# Altium schematic symbol library kmilo17pet-TI_LDO_0_350.SchLib: 1649 symbols (part 60 of 66)
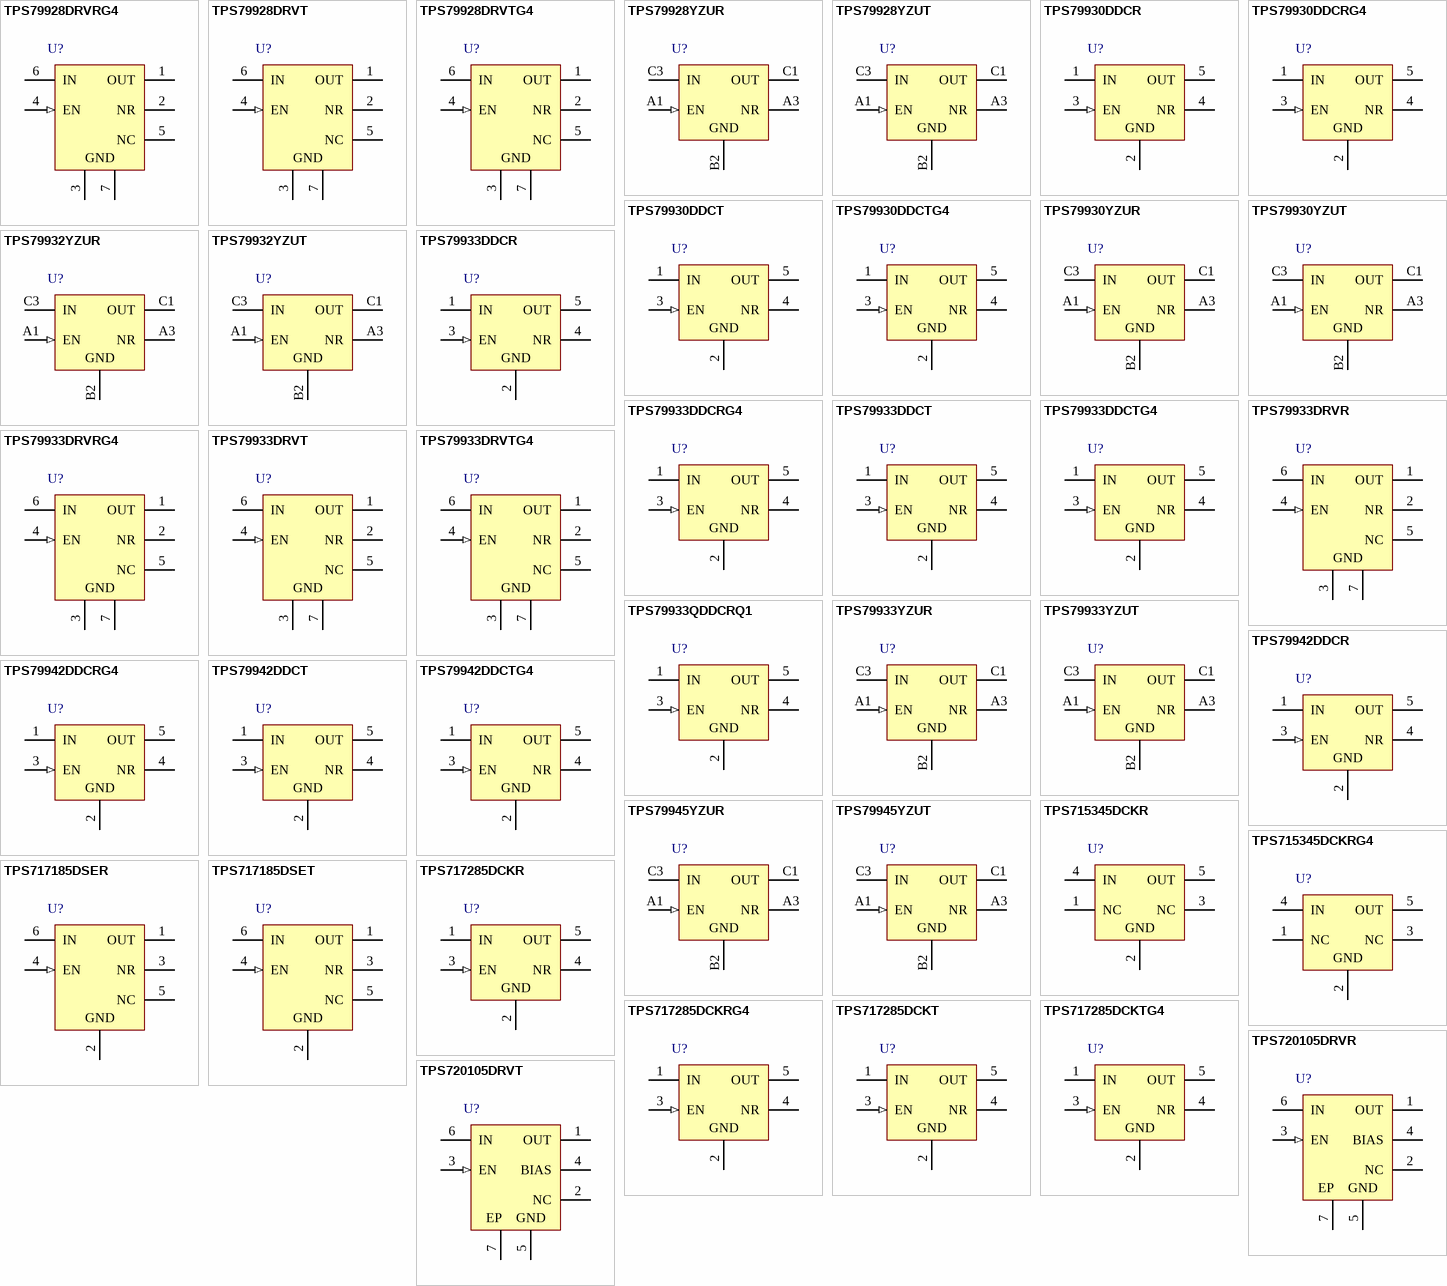
[diagram p101: symbols TPS79928DRVRG4 to TPS720105DRVT]

## TPS79945YZUR
designator U?
Single Output High PSRR LDO, 200 mA, Fixed 4.5 V Output, 2.7 to 6.5 V Input, with Low IQ, 5-pin DSBGA (YZU), -40 to 85 degC, Green (RoHS & no Sb/Br); Manufacturer: Texas Instruments; PartNumber: TPS79945YZUR; Accuracy(%): 2; Fixed Output Options(V): 4.5; Iout(Max)(A): 0.2; Iq(Typ)(mA): 0.04; Rating: Catalog; SubFamily: Single Channel LDO; Vdo(Typ)(mV): 100; Vin(Max)(V): 6.5; Vin(Min)(V): 2.7; DatasheetVersion: SBVS056J; PackageVersion: 4205678/D; PackageReference: YZU5; PackageDescription: 5-Pin Silicon Grid Array, Body 1.337 x 0.971 mm, Pitch 0.25 mm; Supplier 1: Digi-Key; Supplier Part Number 1: 296-21904-2-ND; Supplier 2: Digi-Key; Supplier Part Number 2: 296-21904-1-ND; Supplier 3: Digi-Key; Supplier Part Number 3: 296-21904-6-ND; Supplier 4: Newark; Supplier Part Number 4: 99K4449; Supplier 5: Mouser; Supplier Part Number 5: 595-TPS79945YZUR; Eco-Plan: Green (RoHS & no Sb/Br); Vout Adj(Max)(V): 4.5; Vout Adj(Min)(V): 4.5; Mounting Technology: Surface Mount; ComponentLink1Description: Manufacturer URL; ComponentLink1URL: http://www.ti.com/; ComponentLink2Description: Datasheet; ComponentLink2URL: http://www.ti.com/general/docs/lit/getliterature.tsp?genericPartNumber=TPS79945&fileType=pdf; ComponentLink3Description: Package Specification; ComponentLink3URL: http://www.ti.com/litv/pdf/mpds018i
footprint TI-YZU5-1337x971DE (BGA, 5-Balls, Body 1.337x0.971mm, Pitch 0.25mm)
pins: A1 EN (in) "Driving the enable pin (EN) high turns on the regulator. Driving this pin low puts the regulator into shutdown mode. EN can be connected to IN if not used.", A3 NR "Fixed voltage versions only; connecting an external capacitor to this pin bypasses noise generated by the internal bandgap. This capacitor allows output noise to be reduced to very low levels.", B2 GND (power) "Ground", C1 OUT (power) "Output of the regulator. A small capacitor (total typical capacitance >= 2.0mF ceramic) is needed from this pin to ground to assure stability.", C3 IN (power) "Input supply."

## TPS79945YZUT
designator U?
Single Output High PSRR LDO, 200 mA, Fixed 4.5 V Output, 2.7 to 6.5 V Input, with Low IQ, 5-pin DSBGA (YZU), -40 to 85 degC, Green (RoHS & no Sb/Br); Manufacturer: Texas Instruments; PartNumber: TPS79945YZUT; Accuracy(%): 2; Fixed Output Options(V): 4.5; Iout(Max)(A): 0.2; Iq(Typ)(mA): 0.04; Rating: Catalog; SubFamily: Single Channel LDO; Vdo(Typ)(mV): 100; Vin(Max)(V): 6.5; Vin(Min)(V): 2.7; DatasheetVersion: SBVS056J; PackageVersion: 4205678/D; PackageReference: YZU5; PackageDescription: 5-Pin Silicon Grid Array, Body 1.337 x 0.971 mm, Pitch 0.25 mm; Supplier 1: Digi-Key; Supplier Part Number 1: TPS79945YZUT-ND; Supplier 2: Mouser; Supplier Part Number 2: 595-TPS79945YZUT; Eco-Plan: Green (RoHS & no Sb/Br); Vout Adj(Max)(V): 4.5; Vout Adj(Min)(V): 4.5; Mounting Technology: Surface Mount; ComponentLink1Description: Manufacturer URL; ComponentLink1URL: http://www.ti.com/; ComponentLink2Description: Datasheet; ComponentLink2URL: http://www.ti.com/general/docs/lit/getliterature.tsp?genericPartNumber=TPS79945&fileType=pdf; ComponentLink3Description: Package Specification; ComponentLink3URL: http://www.ti.com/litv/pdf/mpds018i
footprint TI-YZU5-1337x971DE (BGA, 5-Balls, Body 1.337x0.971mm, Pitch 0.25mm)
pins: A1 EN (in) "Driving the enable pin (EN) high turns on the regulator. Driving this pin low puts the regulator into shutdown mode. EN can be connected to IN if not used.", A3 NR "Fixed voltage versions only; connecting an external capacitor to this pin bypasses noise generated by the internal bandgap. This capacitor allows output noise to be reduced to very low levels.", B2 GND (power) "Ground", C1 OUT (power) "Output of the regulator. A small capacitor (total typical capacitance >= 2.0mF ceramic) is needed from this pin to ground to assure stability.", C3 IN (power) "Input supply."

## TPS715345DCKR
designator U?
Single Output LDO, 50 mA, Fixed 3.45 V Output, 3 to 24 V Input, 5-pin SC70 (DCK), -40 to 85 degC, Green (RoHS & no Sb/Br); Manufacturer: Texas Instruments; PartNumber: TPS715345DCKR; Accuracy(%): 4; Fixed Output Options(V): 3.45; Iout(Max)(A): 0.05; Iq(Typ)(mA): 0.003; SubFamily: Single Channel LDO; Vdo(Typ)(mV): 415; Vin(Max)(V): 24; Vin(Min)(V): 3; DatasheetVersion: SLVS338P; PackageVersion: 4093553-3/G; PackageReference: DCK5; PackageDescription: 5-Pin Plastic Small-Outline, Body 2 x 1.25 mm, Pitch 0.65 mm; Supplier 1: Digi-Key; Supplier Part Number 1: 296-18732-2-ND; Supplier 2: Digi-Key; Supplier Part Number 2: 296-18732-1-ND; Supplier 3: Digi-Key; Supplier Part Number 3: 296-18732-6-ND; Supplier 4: Farnell; Supplier Part Number 4: 1412675; Supplier 5: Newark; Supplier Part Number 5: 61K1909; Supplier 6: Mouser; Supplier Part Number 6: 595-TPS715345DCKR; Eco-Plan: Green (RoHS & no Sb/Br); Vout Adj(Max)(V): 3.45; Vout Adj(Min)(V): 3.45; Mounting Technology: Surface Mount; Code_JEDEC: MO-203; ComponentLink1Description: Manufacturer URL; ComponentLink1URL: http://www.ti.com/; ComponentLink2Description: Datasheet; ComponentLink2URL: http://www.ti.com/general/docs/lit/getliterature.tsp?genericPartNumber=TPS715345&fileType=pdf; ComponentLink3Description: Package Specification; ComponentLink3URL: http://www.ti.com/litv/pdf/mpds025f
footprint TI-DCK5_V (SOT23, 5-Leads, Body 2x1.25mm, Pitch 0.65mm)
pins: 1 NC "No connection", 2 GND (power) "Ground", 3 NC "No connection", 4 IN (power) "Input supply", 5 OUT (power) "Output of the regulator, any output capacitor >= 0.47 uF can be used for stability."

## TPS715345DCKRG4
designator U?
Single Output LDO, 50 mA, Fixed 3.45 V Output, 3 to 24 V Input, 5-pin SC70 (DCK), -40 to 85 degC, Green (RoHS & no Sb/Br); Manufacturer: Texas Instruments; PartNumber: TPS715345DCKRG4; Accuracy(%): 4; Fixed Output Options(V): 3.45; Iout(Max)(A): 0.05; Iq(Typ)(mA): 0.003; SubFamily: Single Channel LDO; Vdo(Typ)(mV): 415; Vin(Max)(V): 24; Vin(Min)(V): 3; DatasheetVersion: SLVS338P; PackageVersion: 4093553-3/G; PackageReference: DCK5; PackageDescription: 5-Pin Plastic Small-Outline, Body 2 x 1.25 mm, Pitch 0.65 mm; Supplier 1: Digi-Key; Supplier Part Number 1: TPS715345DCKRG4-ND; Supplier 2: Mouser; Supplier Part Number 2: 595-TPS715345DCKRG4; Eco-Plan: Green (RoHS & no Sb/Br); Vout Adj(Max)(V): 3.45; Vout Adj(Min)(V): 3.45; Mounting Technology: Surface Mount; Code_JEDEC: MO-203; ComponentLink1Description: Manufacturer URL; ComponentLink1URL: http://www.ti.com/; ComponentLink2Description: Datasheet; ComponentLink2URL: http://www.ti.com/general/docs/lit/getliterature.tsp?genericPartNumber=TPS715345&fileType=pdf; ComponentLink3Description: Package Specification; ComponentLink3URL: http://www.ti.com/litv/pdf/mpds025f
footprint TI-DCK5_V (SOT23, 5-Leads, Body 2x1.25mm, Pitch 0.65mm)
pins: 1 NC "No connection", 2 GND (power) "Ground", 3 NC "No connection", 4 IN (power) "Input supply", 5 OUT (power) "Output of the regulator, any output capacitor >= 0.47 uF can be used for stability."

## TPS717185DSER
designator U?
Single Output High PSRR LDO, 150 mA, Fixed 1.85 V Output, 2.5 to 6.5 V Input, with Low IQ, 6-pin WSON (DSE), -40 to 125 degC, Green (RoHS & no Sb/Br); Manufacturer: Texas Instruments; PartNumber: TPS717185DSER; Accuracy(%): 3; Fixed Output Options(V): 1.85; Iout(Max)(A): 0.15; Iq(Typ)(mA): 0.05; SubFamily: Single Channel LDO; Vdo(Typ)(mV): 170; Vin(Max)(V): 6.5; Vin(Min)(V): 2.5; DatasheetVersion: SBVS068G; PackageVersion: 4207810/A; PackageReference: DSE6; PackageDescription: 6-Pin Plastic Small Outline, Body 1.5 x 1.5 mm, Pitch 0.5 mm; Supplier 1: Digi-Key; Supplier Part Number 1: 296-24055-2-ND; Supplier 2: Digi-Key; Supplier Part Number 2: 296-24055-1-ND; Supplier 3: Digi-Key; Supplier Part Number 3: 296-24055-6-ND; Supplier 4: Newark; Supplier Part Number 4: 45P8295; Supplier 5: Mouser; Supplier Part Number 5: 595-TPS717185DSER; Eco-Plan: Green (RoHS & no Sb/Br); Vout Adj(Max)(V): 1.85; Vout Adj(Min)(V): 1.85; Mounting Technology: Surface Mount; ComponentLink1Description: Manufacturer URL; ComponentLink1URL: http://www.ti.com/; ComponentLink2Description: Datasheet; ComponentLink2URL: http://www.ti.com/general/docs/lit/getliterature.tsp?genericPartNumber=TPS717185&fileType=pdf; ComponentLink3Description: Package Specification; ComponentLink3URL: http://www.ti.com/litv/pdf/mpds287
footprint TI-DSE6_V (SON, 6-Leads, Body 1.5x1.5mm, Pitch 0.5mm)
pins: 1 OUT (power) "This is the regulated output voltage. A small capacitor is needed from this pin to ground to assure stability; a 1.0µF ceramic capacitor is adequate", 2 GND (power) "Ground", 3 NR "Fixed voltage versions only. An external capacitor connected to this terminal bypasses noise generated by the internal bandgap, lowering output noise", 4 EN (in) "Driving the enable pin (EN) high turns on the regulator. Driving this pin low puts the regulator into standby mode, thereby reducing operating current", 5 NC "Not connected. This pin can be tied to ground to improve thermal dissipation", 6 IN (power) "Input to the device"

## TPS717185DSET
designator U?
Single Output High PSRR LDO, 150 mA, Fixed 1.85 V Output, 2.5 to 6.5 V Input, with Low IQ, 6-pin WSON (DSE), -40 to 125 degC, Green (RoHS & no Sb/Br); Manufacturer: Texas Instruments; PartNumber: TPS717185DSET; Accuracy(%): 3; Fixed Output Options(V): 1.85; Iout(Max)(A): 0.15; Iq(Typ)(mA): 0.05; SubFamily: Single Channel LDO; Vdo(Typ)(mV): 170; Vin(Max)(V): 6.5; Vin(Min)(V): 2.5; DatasheetVersion: SBVS068G; PackageVersion: 4207810/A; PackageReference: DSE6; PackageDescription: 6-Pin Plastic Small Outline, Body 1.5 x 1.5 mm, Pitch 0.5 mm; Supplier 1: Digi-Key; Supplier Part Number 1: TPS717185DSET-ND; Supplier 2: Mouser; Supplier Part Number 2: 595-TPS717185DSET; Eco-Plan: Green (RoHS & no Sb/Br); Vout Adj(Max)(V): 1.85; Vout Adj(Min)(V): 1.85; Mounting Technology: Surface Mount; ComponentLink1Description: Manufacturer URL; ComponentLink1URL: http://www.ti.com/; ComponentLink2Description: Datasheet; ComponentLink2URL: http://www.ti.com/general/docs/lit/getliterature.tsp?genericPartNumber=TPS717185&fileType=pdf; ComponentLink3Description: Package Specification; ComponentLink3URL: http://www.ti.com/litv/pdf/mpds287
footprint TI-DSE6_V (SON, 6-Leads, Body 1.5x1.5mm, Pitch 0.5mm)
pins: 1 OUT (power) "This is the regulated output voltage. A small capacitor is needed from this pin to ground to assure stability; a 1.0µF ceramic capacitor is adequate", 2 GND (power) "Ground", 3 NR "Fixed voltage versions only. An external capacitor connected to this terminal bypasses noise generated by the internal bandgap, lowering output noise", 4 EN (in) "Driving the enable pin (EN) high turns on the regulator. Driving this pin low puts the regulator into standby mode, thereby reducing operating current", 5 NC "Not connected. This pin can be tied to ground to improve thermal dissipation", 6 IN (power) "Input to the device"

## TPS717285DCKR
designator U?
Single Output High PSRR LDO, 150 mA, Fixed 2.85 V Output, 2.5 to 6.5 V Input, with Low IQ, 5-pin SC70 (DCK), -40 to 85 degC, Green (RoHS & no Sb/Br); Manufacturer: Texas Instruments; PartNumber: TPS717285DCKR; Accuracy(%): 3; Fixed Output Options(V): 2.85; Iout(Max)(A): 0.15; Iq(Typ)(mA): 0.05; SubFamily: Single Channel LDO; Vdo(Typ)(mV): 170; Vin(Max)(V): 6.5; Vin(Min)(V): 2.5; DatasheetVersion: SBVS068G; PackageVersion: 4093553-3/G; PackageReference: DCK5; PackageDescription: 5-Pin Plastic Small-Outline, Body 2 x 1.25 mm, Pitch 0.65 mm; Supplier 1: Digi-Key; Supplier Part Number 1: 296-19649-2-ND; Supplier 2: Digi-Key; Supplier Part Number 2: 296-19649-1-ND; Supplier 3: Digi-Key; Supplier Part Number 3: 296-19649-6-ND; Supplier 4: Newark; Supplier Part Number 4: 84K3843; Supplier 5: Mouser; Supplier Part Number 5: 595-TPS717285DCKR; Eco-Plan: Green (RoHS & no Sb/Br); Vout Adj(Max)(V): 2.85; Vout Adj(Min)(V): 2.85; Mounting Technology: Surface Mount; Code_JEDEC: MO-203; ComponentLink1Description: Manufacturer URL; ComponentLink1URL: http://www.ti.com/; ComponentLink2Description: Datasheet; ComponentLink2URL: http://www.ti.com/general/docs/lit/getliterature.tsp?genericPartNumber=TPS717285&fileType=pdf; ComponentLink3Description: Package Specification; ComponentLink3URL: http://www.ti.com/litv/pdf/mpds025f
footprint TI-DCK5_V (SOT23, 5-Leads, Body 2x1.25mm, Pitch 0.65mm)
pins: 1 IN (power) "Input supply.", 2 GND (power) "Ground.", 3 EN (in) "Driving the enable pin (EN) high turns on the regulator .Driving this pin low puts the regulator into shutdown mode.EN can be connected to IN if not used.", 4 NR "Fixed voltage versions only; connecting an external capacitor to this pin bypasses noise generated by the internal bandgap. This capacitor allows output noise to be reduced to very low levels.", 5 OUT (power) "Output for the regulator. A small capacitor (total typical capacitance >= 2.0uF ceramic) is needed from this pin to ground to assure stability."

## TPS717285DCKRG4
designator U?
Single Output High PSRR LDO, 150 mA, Fixed 2.85 V Output, 2.5 to 6.5 V Input, with Low IQ, 5-pin SC70 (DCK), -40 to 85 degC, Green (RoHS & no Sb/Br); Manufacturer: Texas Instruments; PartNumber: TPS717285DCKRG4; Accuracy(%): 3; Fixed Output Options(V): 2.85; Iout(Max)(A): 0.15; Iq(Typ)(mA): 0.05; SubFamily: Single Channel LDO; Vdo(Typ)(mV): 170; Vin(Max)(V): 6.5; Vin(Min)(V): 2.5; DatasheetVersion: SBVS068G; PackageVersion: 4093553-3/G; PackageReference: DCK5; PackageDescription: 5-Pin Plastic Small-Outline, Body 2 x 1.25 mm, Pitch 0.65 mm; Supplier 1: Digi-Key; Supplier Part Number 1: TPS717285DCKRG4-ND; Supplier 2: Mouser; Supplier Part Number 2: 595-TPS717285DCKRG4; Eco-Plan: Green (RoHS & no Sb/Br); Vout Adj(Max)(V): 2.85; Vout Adj(Min)(V): 2.85; Mounting Technology: Surface Mount; Code_JEDEC: MO-203; ComponentLink1Description: Manufacturer URL; ComponentLink1URL: http://www.ti.com/; ComponentLink2Description: Datasheet; ComponentLink2URL: http://www.ti.com/general/docs/lit/getliterature.tsp?genericPartNumber=TPS717285&fileType=pdf; ComponentLink3Description: Package Specification; ComponentLink3URL: http://www.ti.com/litv/pdf/mpds025f
footprint TI-DCK5_V (SOT23, 5-Leads, Body 2x1.25mm, Pitch 0.65mm)
pins: 1 IN (power) "Input supply.", 2 GND (power) "Ground.", 3 EN (in) "Driving the enable pin (EN) high turns on the regulator .Driving this pin low puts the regulator into shutdown mode.EN can be connected to IN if not used.", 4 NR "Fixed voltage versions only; connecting an external capacitor to this pin bypasses noise generated by the internal bandgap. This capacitor allows output noise to be reduced to very low levels.", 5 OUT (power) "Output for the regulator. A small capacitor (total typical capacitance >= 2.0uF ceramic) is needed from this pin to ground to assure stability."

## TPS717285DCKT
designator U?
Single Output High PSRR LDO, 150 mA, Fixed 2.85 V Output, 2.5 to 6.5 V Input, with Low IQ, 5-pin SC70 (DCK), -40 to 85 degC, Green (RoHS & no Sb/Br); Manufacturer: Texas Instruments; PartNumber: TPS717285DCKT; Accuracy(%): 3; Fixed Output Options(V): 2.85; Iout(Max)(A): 0.15; Iq(Typ)(mA): 0.05; SubFamily: Single Channel LDO; Vdo(Typ)(mV): 170; Vin(Max)(V): 6.5; Vin(Min)(V): 2.5; DatasheetVersion: SBVS068G; PackageVersion: 4093553-3/G; PackageReference: DCK5; PackageDescription: 5-Pin Plastic Small-Outline, Body 2 x 1.25 mm, Pitch 0.65 mm; Supplier 1: Digi-Key; Supplier Part Number 1: 296-32541-2-ND; Supplier 2: Digi-Key; Supplier Part Number 2: 296-32541-1-ND; Supplier 3: Digi-Key; Supplier Part Number 3: 296-32541-6-ND; Supplier 4: Mouser; Supplier Part Number 4: 595-TPS717285DCKT; Eco-Plan: Green (RoHS & no Sb/Br); Vout Adj(Max)(V): 2.85; Vout Adj(Min)(V): 2.85; Mounting Technology: Surface Mount; Code_JEDEC: MO-203; ComponentLink1Description: Manufacturer URL; ComponentLink1URL: http://www.ti.com/; ComponentLink2Description: Datasheet; ComponentLink2URL: http://www.ti.com/general/docs/lit/getliterature.tsp?genericPartNumber=TPS717285&fileType=pdf; ComponentLink3Description: Package Specification; ComponentLink3URL: http://www.ti.com/litv/pdf/mpds025f
footprint TI-DCK5_V (SOT23, 5-Leads, Body 2x1.25mm, Pitch 0.65mm)
pins: 1 IN (power) "Input supply.", 2 GND (power) "Ground.", 3 EN (in) "Driving the enable pin (EN) high turns on the regulator .Driving this pin low puts the regulator into shutdown mode.EN can be connected to IN if not used.", 4 NR "Fixed voltage versions only; connecting an external capacitor to this pin bypasses noise generated by the internal bandgap. This capacitor allows output noise to be reduced to very low levels.", 5 OUT (power) "Output for the regulator. A small capacitor (total typical capacitance >= 2.0uF ceramic) is needed from this pin to ground to assure stability."

## TPS717285DCKTG4
designator U?
Single Output High PSRR LDO, 150 mA, Fixed 2.85 V Output, 2.5 to 6.5 V Input, with Low IQ, 5-pin SC70 (DCK), -40 to 85 degC, Green (RoHS & no Sb/Br); Manufacturer: Texas Instruments; PartNumber: TPS717285DCKTG4; Accuracy(%): 3; Fixed Output Options(V): 2.85; Iout(Max)(A): 0.15; Iq(Typ)(mA): 0.05; SubFamily: Single Channel LDO; Vdo(Typ)(mV): 170; Vin(Max)(V): 6.5; Vin(Min)(V): 2.5; DatasheetVersion: SBVS068G; PackageVersion: 4093553-3/G; PackageReference: DCK5; PackageDescription: 5-Pin Plastic Small-Outline, Body 2 x 1.25 mm, Pitch 0.65 mm; Supplier 1: Digi-Key; Supplier Part Number 1: TPS717285DCKTG4-ND; Supplier 2: Mouser; Supplier Part Number 2: 595-TPS717285DCKTG4; Eco-Plan: Green (RoHS & no Sb/Br); Vout Adj(Max)(V): 2.85; Vout Adj(Min)(V): 2.85; Mounting Technology: Surface Mount; Code_JEDEC: MO-203; ComponentLink1Description: Manufacturer URL; ComponentLink1URL: http://www.ti.com/; ComponentLink2Description: Datasheet; ComponentLink2URL: http://www.ti.com/general/docs/lit/getliterature.tsp?genericPartNumber=TPS717285&fileType=pdf; ComponentLink3Description: Package Specification; ComponentLink3URL: http://www.ti.com/litv/pdf/mpds025f
footprint TI-DCK5_V (SOT23, 5-Leads, Body 2x1.25mm, Pitch 0.65mm)
pins: 1 IN (power) "Input supply.", 2 GND (power) "Ground.", 3 EN (in) "Driving the enable pin (EN) high turns on the regulator .Driving this pin low puts the regulator into shutdown mode.EN can be connected to IN if not used.", 4 NR "Fixed voltage versions only; connecting an external capacitor to this pin bypasses noise generated by the internal bandgap. This capacitor allows output noise to be reduced to very low levels.", 5 OUT (power) "Output for the regulator. A small capacitor (total typical capacitance >= 2.0uF ceramic) is needed from this pin to ground to assure stability."

## TPS720105DRVR
designator U?
Single Output LDO, 350 mA, Fixed 1.05 V Output, 1.1 to 4.5 V Input, with Bias Pin, 6-pin SON (DRV), -40 to 125 degC, Green (RoHS & no Sb/Br); Manufacturer: Texas Instruments; PartNumber: TPS720105DRVR; Accuracy(%): 2; Fixed Output Options(V): 1.05; Iout(Max)(A): 0.3; Iq(Typ)(mA): 0.03; Rating: Catalog; SubFamily: Single Channel LDO; Vdo(Typ)(mV): 110; Vin(Max)(V): 4.5; Vin(Min)(V): 1.1; DatasheetVersion: SBVS100D; PackageVersion: 4206925/E; PackageReference: DRV6-1600X1000TP; PackageDescription: 6-Pin Plastic Small Outline No-Lead, Body 2 x 2 mm, Pitch 0.65 mm; Supplier 1: Digi-Key; Supplier Part Number 1: TPS720105DRVR-ND; Supplier 2: Newark; Supplier Part Number 2: 50R8156; Supplier 3: Mouser; Supplier Part Number 3: 595-TPS720105DRVR; Eco-Plan: Green (RoHS & no Sb/Br); Vout Adj(Max)(V): 1.05; Vout Adj(Min)(V): 1.05; Mounting Technology: Surface Mount; ComponentLink1Description: Manufacturer URL; ComponentLink1URL: http://www.ti.com/; ComponentLink2Description: Datasheet; ComponentLink2URL: http://www.ti.com/general/docs/lit/getliterature.tsp?genericPartNumber=TPS720105&fileType=pdf; ComponentLink3Description: Package Specification; ComponentLink3URL: http://www.ti.com/litv/pdf/mpds216d
footprint TI-DRV6-1600X1000TP_V (SON, 6-Leads, Body 2x2mm, Pitch 0.65mm, Thermal Pad 1X1.6mm)
pins: 1 OUT (power) "Output pin. A 2.2uF ceramic capacitor is connected from this pin to ground, for stability and to provide load transients.", 2 NC "No connection.", 3 EN (in) "Enable pin. A logic high signal on this pin turns the device on and regulates the voltage from IN to OUT. A logic low on this pin turns off the device.", 4 BIAS (power) "Bias supply pin. It is recommended that this input be bypassed with a ceramic capacitor to ground for better transient performance.", 5 GND (power) "Ground pin.", 6 IN (power) "Input pin. This pin can be a maximum of 4.5V; VIN must not exceed VBIAS. Bypass this input with a ceramic capacitor to ground.", 7 EP (power) "It is recommended that the SON package thermal pad be connected to ground."

## TPS720105DRVT
designator U?
Single Output LDO, 350 mA, Fixed 1.05 V Output, 1.1 to 4.5 V Input, with Bias Pin, 6-pin SON (DRV), -40 to 125 degC, Green (RoHS & no Sb/Br); Manufacturer: Texas Instruments; PartNumber: TPS720105DRVT; Accuracy(%): 2; Fixed Output Options(V): 1.05; Iout(Max)(A): 0.3; Iq(Typ)(mA): 0.03; Rating: Catalog; SubFamily: Single Channel LDO; Vdo(Typ)(mV): 110; Vin(Max)(V): 4.5; Vin(Min)(V): 1.1; DatasheetVersion: SBVS100D; PackageVersion: 4206925/E; PackageReference: DRV6-1600X1000TP; PackageDescription: 6-Pin Plastic Small Outline No-Lead, Body 2 x 2 mm, Pitch 0.65 mm; Supplier 1: Digi-Key; Supplier Part Number 1: 296-24963-2-ND; Supplier 2: Digi-Key; Supplier Part Number 2: 296-24963-1-ND; Supplier 3: Digi-Key; Supplier Part Number 3: 296-24963-6-ND; Supplier 4: Mouser; Supplier Part Number 4: 595-TPS720105DRVT; Eco-Plan: Green (RoHS & no Sb/Br); Vout Adj(Max)(V): 1.05; Vout Adj(Min)(V): 1.05; Mounting Technology: Surface Mount; ComponentLink1Description: Manufacturer URL; ComponentLink1URL: http://www.ti.com/; ComponentLink2Description: Datasheet; ComponentLink2URL: http://www.ti.com/general/docs/lit/getliterature.tsp?genericPartNumber=TPS720105&fileType=pdf; ComponentLink3Description: Package Specification; ComponentLink3URL: http://www.ti.com/litv/pdf/mpds216d
footprint TI-DRV6-1600X1000TP_V (SON, 6-Leads, Body 2x2mm, Pitch 0.65mm, Thermal Pad 1X1.6mm)
pins: 1 OUT (power) "Output pin. A 2.2uF ceramic capacitor is connected from this pin to ground, for stability and to provide load transients.", 2 NC "No connection.", 3 EN (in) "Enable pin. A logic high signal on this pin turns the device on and regulates the voltage from IN to OUT. A logic low on this pin turns off the device.", 4 BIAS (power) "Bias supply pin. It is recommended that this input be bypassed with a ceramic capacitor to ground for better transient performance.", 5 GND (power) "Ground pin.", 6 IN (power) "Input pin. This pin can be a maximum of 4.5V; VIN must not exceed VBIAS. Bypass this input with a ceramic capacitor to ground.", 7 EP (power) "It is recommended that the SON package thermal pad be connected to ground."

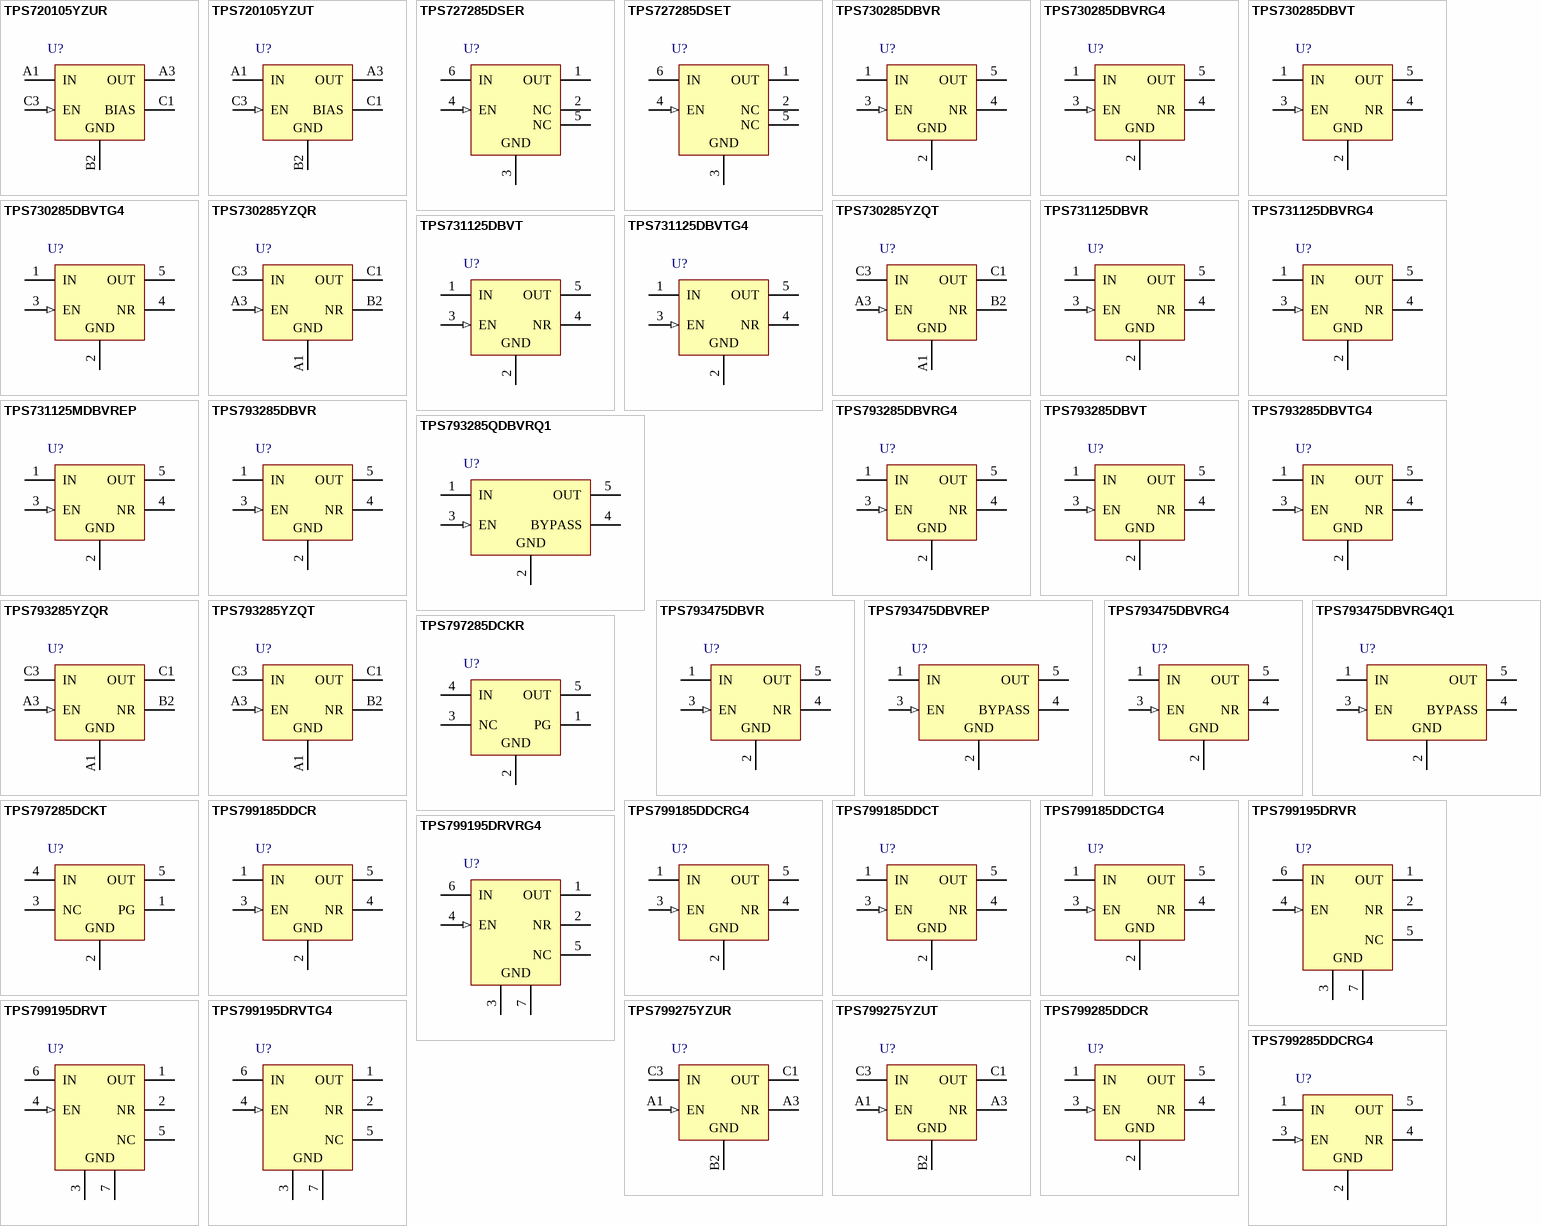
[diagram p39: symbols TPS720105YZUR to TPS799285DDCRG4]

## TPS720105YZUR
designator U?
Single Output LDO, 350 mA, Fixed 1.05 V Output, 1.1 to 4.5 V Input, with Bias Pin, 5-pin DSBGA (YZU), -40 to 125 degC, Green (RoHS & no Sb/Br); Manufacturer: Texas Instruments; PartNumber: TPS720105YZUR; Accuracy(%): 2; Fixed Output Options(V): 1.05; Iout(Max)(A): 0.3; Iq(Typ)(mA): 0.03; Rating: Catalog; SubFamily: Single Channel LDO; Vdo(Typ)(mV): 110; Vin(Max)(V): 4.5; Vin(Min)(V): 1.1; DatasheetVersion: SBVS100D; PackageVersion: 4205678/D; PackageReference: YZU5; PackageDescription: 5-Pin Silicon Grid Array, Body 1.332 x 0.964 mm, Pitch 0.25 mm; Supplier 1: Digi-Key; Supplier Part Number 1: TPS720105YZUR-ND; Supplier 2: Newark; Supplier Part Number 2: 25R0139; Supplier 3: Mouser; Supplier Part Number 3: 595-TPS720105YZUR; Eco-Plan: Green (RoHS & no Sb/Br); Vout Adj(Max)(V): 1.05; Vout Adj(Min)(V): 1.05; Mounting Technology: Surface Mount; ComponentLink1Description: Manufacturer URL; ComponentLink1URL: http://www.ti.com/; ComponentLink2Description: Datasheet; ComponentLink2URL: http://www.ti.com/general/docs/lit/getliterature.tsp?genericPartNumber=TPS720105&fileType=pdf; ComponentLink3Description: Package Specification; ComponentLink3URL: http://www.ti.com/litv/pdf/mpds018i
footprint TI-YZU5-1332X964DE (BGA, 5-Balls, Body 1.332x0.964mm, Pitch 0.25mm)
pins: A1 IN (power) "Input pin. This pin can be a maximum of 4.5V; VINmust not exceed VBIAS. Bypass this input with a ceramic capacitor to ground.", A3 OUT (power) "Output pin. A 2.2uFµFceramic capacitor is connected from this pin to ground, for stability and to provide load transients", B2 GND (power) "Ground pin.", C1 BIAS (power) "Bias supply pin. It is recommended that this input be bypassed with a ceramic capacitor to ground for better transient performance.", C3 EN (in) "Enable pin. A logic high signal on this pin turns the device on and regulates the voltage from IN to OUT. A logic low on this pin turns off the device."

## TPS720105YZUT
designator U?
Single Output LDO, 350 mA, Fixed 1.05 V Output, 1.1 to 4.5 V Input, with Bias Pin, 5-pin DSBGA (YZU), -40 to 125 degC, Green (RoHS & no Sb/Br); Manufacturer: Texas Instruments; PartNumber: TPS720105YZUT; Accuracy(%): 2; Fixed Output Options(V): 1.05; Iout(Max)(A): 0.3; Iq(Typ)(mA): 0.03; Rating: Catalog; SubFamily: Single Channel LDO; Vdo(Typ)(mV): 110; Vin(Max)(V): 4.5; Vin(Min)(V): 1.1; DatasheetVersion: SBVS100D; PackageVersion: 4205678/D; PackageReference: YZU5; PackageDescription: 5-Pin Silicon Grid Array, Body 1.332 x 0.964 mm, Pitch 0.25 mm; Supplier 1: Digi-Key; Supplier Part Number 1: 296-24627-2-ND; Supplier 2: Digi-Key; Supplier Part Number 2: 296-24627-1-ND; Supplier 3: Digi-Key; Supplier Part Number 3: 296-24627-6-ND; Supplier 4: Newark; Supplier Part Number 4: 25R0140; Supplier 5: Mouser; Supplier Part Number 5: 595-TPS720105YZUT; Eco-Plan: Green (RoHS & no Sb/Br); Vout Adj(Max)(V): 1.05; Vout Adj(Min)(V): 1.05; Mounting Technology: Surface Mount; ComponentLink1Description: Manufacturer URL; ComponentLink1URL: http://www.ti.com/; ComponentLink2Description: Datasheet; ComponentLink2URL: http://www.ti.com/general/docs/lit/getliterature.tsp?genericPartNumber=TPS720105&fileType=pdf; ComponentLink3Description: Package Specification; ComponentLink3URL: http://www.ti.com/litv/pdf/mpds018i
footprint TI-YZU5-1332X964DE (BGA, 5-Balls, Body 1.332x0.964mm, Pitch 0.25mm)
pins: A1 IN (power) "Input pin. This pin can be a maximum of 4.5V; VINmust not exceed VBIAS. Bypass this input with a ceramic capacitor to ground.", A3 OUT (power) "Output pin. A 2.2uFµFceramic capacitor is connected from this pin to ground, for stability and to provide load transients", B2 GND (power) "Ground pin.", C1 BIAS (power) "Bias supply pin. It is recommended that this input be bypassed with a ceramic capacitor to ground for better transient performance.", C3 EN (in) "Enable pin. A logic high signal on this pin turns the device on and regulates the voltage from IN to OUT. A logic low on this pin turns off the device."

## TPS727285DSER
designator U?
Single Output Fast Transient Response LDO, 250 mA, Fixed 2.85 V Output, 2 to 5.5 V Input, with Ultra-Low IQ, 6-pin WSON (DSE), -40 to 125 degC, Green (RoHS & no Sb/Br); Manufacturer: Texas Instruments; PartNumber: TPS727285DSER; Accuracy(%): 2; Fixed Output Options(V): 2.85; Iout(Max)(A): 0.2; Iq(Typ)(mA): 0.008; Rating: Catalog; SubFamily: Single Channel LDO; Vdo(Typ)(mV): 130; Vin(Max)(V): 5.5; DatasheetVersion: SBVS128C; PackageVersion: 4207810/A; PackageReference: DSE6; PackageDescription: 6-Pin Plastic Small Outline, Body 1.5 x 1.5 mm, Pitch 0.5 mm; Supplier 1: Digi-Key; Supplier Part Number 1: 296-27441-2-ND; Supplier 2: Digi-Key; Supplier Part Number 2: 296-27441-1-ND; Supplier 3: Digi-Key; Supplier Part Number 3: 296-27441-6-ND; Supplier 4: Newark; Supplier Part Number 4: 79R8609; Supplier 5: Mouser; Supplier Part Number 5: 595-TPS727285DSER; Eco-Plan: Green (RoHS & no Sb/Br); Vin(Min)(V): 2; Vout Adj(Max)(V): 2.85; Vout Adj(Min)(V): 2.85; Mounting Technology: Surface Mount; ComponentLink1Description: Manufacturer URL; ComponentLink1URL: http://www.ti.com/; ComponentLink2Description: Datasheet; ComponentLink2URL: http://www.ti.com/general/docs/lit/getliterature.tsp?genericPartNumber=TPS727285&fileType=pdf; ComponentLink3Description: Package Specification; ComponentLink3URL: http://www.ti.com/litv/pdf/mpds287
footprint TI-DSE6_V (SON, 6-Leads, Body 1.5x1.5mm, Pitch 0.5mm)
pins: 1 OUT (power) "Regulated output voltage pin. A small 1 uF ceramic capacitor is needed from this pin to ground to assure stability. See Input and Output Capacitor Requirements in the Application Information section for more details", 2 NC "No connection. This pin can be tied to to ground to improve thermal dissipation", 3 GND (power) "Ground pin", 4 EN (in) "Enable pin. Driving EN over 0.9V turns on the regulator. Driving EN below 0.4V puts the regulator into shutdown mode, thus reducing the operating current to 120nA, nominal", 5 NC "No connection. This pin can be tied to to ground to improve thermal dissipation", 6 IN (power) "Input pin. A small capacitor is needed from this pin to ground to assure stability. See Input and Output Capacitor Requirements in the Application Information section for more details"

## TPS727285DSET
designator U?
Single Output Fast Transient Response LDO, 250 mA, Fixed 2.85 V Output, 2 to 5.5 V Input, with Ultra-Low IQ, 6-pin WSON (DSE), -40 to 125 degC, Green (RoHS & no Sb/Br); Manufacturer: Texas Instruments; PartNumber: TPS727285DSET; Accuracy(%): 2; Fixed Output Options(V): 2.85; Iout(Max)(A): 0.2; Iq(Typ)(mA): 0.008; Rating: Catalog; SubFamily: Single Channel LDO; Vdo(Typ)(mV): 130; Vin(Max)(V): 5.5; DatasheetVersion: SBVS128C; PackageVersion: 4207810/A; PackageReference: DSE6; PackageDescription: 6-Pin Plastic Small Outline, Body 1.5 x 1.5 mm, Pitch 0.5 mm; Supplier 1: Digi-Key; Supplier Part Number 1: TPS727285DSET-ND; Supplier 2: Mouser; Supplier Part Number 2: 595-TPS727285DSET; Eco-Plan: Green (RoHS & no Sb/Br); Vin(Min)(V): 2; Vout Adj(Max)(V): 2.85; Vout Adj(Min)(V): 2.85; Mounting Technology: Surface Mount; ComponentLink1Description: Manufacturer URL; ComponentLink1URL: http://www.ti.com/; ComponentLink2Description: Datasheet; ComponentLink2URL: http://www.ti.com/general/docs/lit/getliterature.tsp?genericPartNumber=TPS727285&fileType=pdf; ComponentLink3Description: Package Specification; ComponentLink3URL: http://www.ti.com/litv/pdf/mpds287
footprint TI-DSE6_V (SON, 6-Leads, Body 1.5x1.5mm, Pitch 0.5mm)
pins: 1 OUT (power) "Regulated output voltage pin. A small 1 uF ceramic capacitor is needed from this pin to ground to assure stability. See Input and Output Capacitor Requirements in the Application Information section for more details", 2 NC "No connection. This pin can be tied to to ground to improve thermal dissipation", 3 GND (power) "Ground pin", 4 EN (in) "Enable pin. Driving EN over 0.9V turns on the regulator. Driving EN below 0.4V puts the regulator into shutdown mode, thus reducing the operating current to 120nA, nominal", 5 NC "No connection. This pin can be tied to to ground to improve thermal dissipation", 6 IN (power) "Input pin. A small capacitor is needed from this pin to ground to assure stability. See Input and Output Capacitor Requirements in the Application Information section for more details"

## TPS730285DBVR
designator U?
Single Output High PSRR LDO, 200 mA, Fixed 2.85 V Output, 2.7 to 5.5 V Input, 5-pin SOT-23 (DBV), -40 to 85 degC, Green (RoHS & no Sb/Br); Manufacturer: Texas Instruments; PartNumber: TPS730285DBVR; Accuracy(%): 2; Fixed Output Options(V): 2.85; Iout(Max)(A): 0.2; Iq(Typ)(mA): 0.17; Rating: Catalog; SubFamily: Single Channel LDO; Vdo(Typ)(mV): 120; Vin(Max)(V): 5.5; Vin(Min)(V): 2.7; DatasheetVersion: SBVS054I; PackageVersion: 4073253-4/K; PackageReference: DBV5; PackageDescription: 5-Pin Plastic Small Outline, Body 1.60 Ã— 2.90 mm, Pitch 0.95 mm; Supplier 1: Digi-Key; Supplier Part Number 1: TPS730285DBVR-ND; Supplier 2: Mouser; Supplier Part Number 2: 595-TPS730285DBVR; Eco-Plan: Green (RoHS & no Sb/Br); Vout Adj(Max)(V): 2.85; Vout Adj(Min)(V): 2.85; Mounting Technology: Surface Mount; Code_JEDEC: MO-178; ComponentLink1Description: Manufacturer URL; ComponentLink1URL: http://www.ti.com/; ComponentLink2Description: Datasheet; ComponentLink2URL: http://www.ti.com/general/docs/lit/getliterature.tsp?genericPartNumber=TPS730285&fileType=pdf; ComponentLink3Description: Package Specification; ComponentLink3URL: http://www.ti.com/litv/pdf/mpds018i
footprint TI-DBV5_N (SOT23, 5-Leads, Body 2.9x1.6mm, Pitch 0.95mm, IPC Medium Density)
footprint TI-DBV5_L (SOT23, 5-Leads, Body 2.9x1.6mm, Pitch 0.95mm, IPC High Density)
footprint TI-DBV5_M (SOT23, 5-Leads, Body 2.9x1.6mm, Pitch 0.95mm, IPC Low Density)
pins: 1 IN (power) "Input supply.", 2 GND (power) "Ground.", 3 EN (in) "Driving the enable pin (EN) high turns on the regulator .Driving this pin low puts the regulator into shutdown mode.EN can be connected to IN if not used.", 4 NR "Fixed voltage versions only; connecting an external capacitor to this pin bypasses noise generated by the internal bandgap. This capacitor allows output noise to be reduced to very low levels.", 5 OUT (power) "Output for the regulator. A small capacitor (total typical capacitance >= 2.0uF ceramic) is needed from this pin to ground to assure stability."

## TPS730285DBVRG4
designator U?
Single Output High PSRR LDO, 200 mA, Fixed 2.85 V Output, 2.7 to 5.5 V Input, 5-pin SOT-23 (DBV), -40 to 85 degC, Green (RoHS & no Sb/Br); Manufacturer: Texas Instruments; PartNumber: TPS730285DBVRG4; Accuracy(%): 2; Fixed Output Options(V): 2.85; Iout(Max)(A): 0.2; Iq(Typ)(mA): 0.17; Rating: Catalog; SubFamily: Single Channel LDO; Vdo(Typ)(mV): 120; Vin(Max)(V): 5.5; Vin(Min)(V): 2.7; DatasheetVersion: SBVS054I; PackageVersion: 4073253-4/K; PackageReference: DBV5; PackageDescription: 5-Pin Plastic Small Outline, Body 1.60 Ã— 2.90 mm, Pitch 0.95 mm; Supplier 1: Digi-Key; Supplier Part Number 1: TPS730285DBVRG4-ND; Supplier 2: Mouser; Supplier Part Number 2: 595-TPS730285DBVRG4; Eco-Plan: Green (RoHS & no Sb/Br); Vout Adj(Max)(V): 2.85; Vout Adj(Min)(V): 2.85; Mounting Technology: Surface Mount; Code_JEDEC: MO-178; ComponentLink1Description: Manufacturer URL; ComponentLink1URL: http://www.ti.com/; ComponentLink2Description: Datasheet; ComponentLink2URL: http://www.ti.com/general/docs/lit/getliterature.tsp?genericPartNumber=TPS730285&fileType=pdf; ComponentLink3Description: Package Specification; ComponentLink3URL: http://www.ti.com/litv/pdf/mpds018i
footprint TI-DBV5_N (SOT23, 5-Leads, Body 2.9x1.6mm, Pitch 0.95mm, IPC Medium Density)
footprint TI-DBV5_L (SOT23, 5-Leads, Body 2.9x1.6mm, Pitch 0.95mm, IPC High Density)
footprint TI-DBV5_M (SOT23, 5-Leads, Body 2.9x1.6mm, Pitch 0.95mm, IPC Low Density)
pins: 1 IN (power) "Input supply.", 2 GND (power) "Ground.", 3 EN (in) "Driving the enable pin (EN) high turns on the regulator .Driving this pin low puts the regulator into shutdown mode.EN can be connected to IN if not used.", 4 NR "Fixed voltage versions only; connecting an external capacitor to this pin bypasses noise generated by the internal bandgap. This capacitor allows output noise to be reduced to very low levels.", 5 OUT (power) "Output for the regulator. A small capacitor (total typical capacitance >= 2.0uF ceramic) is needed from this pin to ground to assure stability."

## TPS730285DBVT
designator U?
Single Output High PSRR LDO, 200 mA, Fixed 2.85 V Output, 2.7 to 5.5 V Input, 5-pin SOT-23 (DBV), -40 to 85 degC, Green (RoHS & no Sb/Br); Manufacturer: Texas Instruments; PartNumber: TPS730285DBVT; Accuracy(%): 2; Fixed Output Options(V): 2.85; Iout(Max)(A): 0.2; Iq(Typ)(mA): 0.17; Rating: Catalog; SubFamily: Single Channel LDO; Vdo(Typ)(mV): 120; Vin(Max)(V): 5.5; Vin(Min)(V): 2.7; DatasheetVersion: SBVS054I; PackageVersion: 4073253-4/K; PackageReference: DBV5; PackageDescription: 5-Pin Plastic Small Outline, Body 1.60 Ã— 2.90 mm, Pitch 0.95 mm; Supplier 1: Digi-Key; Supplier Part Number 1: 296-21899-2-ND; Supplier 2: Digi-Key; Supplier Part Number 2: 296-21899-1-ND; Supplier 3: Digi-Key; Supplier Part Number 3: 296-21899-6-ND; Supplier 4: Newark; Supplier Part Number 4: 99K4432; Supplier 5: Mouser; Supplier Part Number 5: 595-TPS730285DBVT; Eco-Plan: Green (RoHS & no Sb/Br); Vout Adj(Max)(V): 2.85; Vout Adj(Min)(V): 2.85; Mounting Technology: Surface Mount; Code_JEDEC: MO-178; ComponentLink1Description: Manufacturer URL; ComponentLink1URL: http://www.ti.com/; ComponentLink2Description: Datasheet; ComponentLink2URL: http://www.ti.com/general/docs/lit/getliterature.tsp?genericPartNumber=TPS730285&fileType=pdf; ComponentLink3Description: Package Specification; ComponentLink3URL: http://www.ti.com/litv/pdf/mpds018i
footprint TI-DBV5_N (SOT23, 5-Leads, Body 2.9x1.6mm, Pitch 0.95mm, IPC Medium Density)
footprint TI-DBV5_L (SOT23, 5-Leads, Body 2.9x1.6mm, Pitch 0.95mm, IPC High Density)
footprint TI-DBV5_M (SOT23, 5-Leads, Body 2.9x1.6mm, Pitch 0.95mm, IPC Low Density)
pins: 1 IN (power) "Input supply.", 2 GND (power) "Ground.", 3 EN (in) "Driving the enable pin (EN) high turns on the regulator .Driving this pin low puts the regulator into shutdown mode.EN can be connected to IN if not used.", 4 NR "Fixed voltage versions only; connecting an external capacitor to this pin bypasses noise generated by the internal bandgap. This capacitor allows output noise to be reduced to very low levels.", 5 OUT (power) "Output for the regulator. A small capacitor (total typical capacitance >= 2.0uF ceramic) is needed from this pin to ground to assure stability."

## TPS730285DBVTG4
designator U?
Single Output High PSRR LDO, 200 mA, Fixed 2.85 V Output, 2.7 to 5.5 V Input, 5-pin SOT-23 (DBV), -40 to 85 degC, Green (RoHS & no Sb/Br); Manufacturer: Texas Instruments; PartNumber: TPS730285DBVTG4; Accuracy(%): 2; Fixed Output Options(V): 2.85; Iout(Max)(A): 0.2; Iq(Typ)(mA): 0.17; Rating: Catalog; SubFamily: Single Channel LDO; Vdo(Typ)(mV): 120; Vin(Max)(V): 5.5; Vin(Min)(V): 2.7; DatasheetVersion: SBVS054I; PackageVersion: 4073253-4/K; PackageReference: DBV5; PackageDescription: 5-Pin Plastic Small Outline, Body 1.60 Ã— 2.90 mm, Pitch 0.95 mm; Supplier 1: Digi-Key; Supplier Part Number 1: TPS730285DBVTG4-ND; Supplier 2: Farnell; Supplier Part Number 2: 1329609RL; Supplier 3: Farnell; Supplier Part Number 3: 1329609; Supplier 4: Newark; Supplier Part Number 4: 62M0771; Supplier 5: Newark; Supplier Part Number 5: 02M4328; Supplier 6: Mouser; Supplier Part Number 6: 595-TPS730285DBVTG4; Eco-Plan: Green (RoHS & no Sb/Br); Vout Adj(Max)(V): 2.85; Vout Adj(Min)(V): 2.85; Mounting Technology: Surface Mount; Code_JEDEC: MO-178; ComponentLink1Description: Manufacturer URL; ComponentLink1URL: http://www.ti.com/; ComponentLink2Description: Datasheet; ComponentLink2URL: http://www.ti.com/general/docs/lit/getliterature.tsp?genericPartNumber=TPS730285&fileType=pdf; ComponentLink3Description: Package Specification; ComponentLink3URL: http://www.ti.com/litv/pdf/mpds018i
footprint TI-DBV5_N (SOT23, 5-Leads, Body 2.9x1.6mm, Pitch 0.95mm, IPC Medium Density)
footprint TI-DBV5_L (SOT23, 5-Leads, Body 2.9x1.6mm, Pitch 0.95mm, IPC High Density)
footprint TI-DBV5_M (SOT23, 5-Leads, Body 2.9x1.6mm, Pitch 0.95mm, IPC Low Density)
pins: 1 IN (power) "Input supply.", 2 GND (power) "Ground.", 3 EN (in) "Driving the enable pin (EN) high turns on the regulator .Driving this pin low puts the regulator into shutdown mode.EN can be connected to IN if not used.", 4 NR "Fixed voltage versions only; connecting an external capacitor to this pin bypasses noise generated by the internal bandgap. This capacitor allows output noise to be reduced to very low levels.", 5 OUT (power) "Output for the regulator. A small capacitor (total typical capacitance >= 2.0uF ceramic) is needed from this pin to ground to assure stability."

## TPS730285YZQR
designator U?
Single Output High PSRR LDO, 200 mA, Fixed 2.85 V Output, 2.7 to 5.5 V Input, 5-pin DSBGA (YZQ), -40 to 85 degC, Green (RoHS & no Sb/Br); Manufacturer: Texas Instruments; PartNumber: TPS730285YZQR; Accuracy(%): 2; Fixed Output Options(V): 2.85; Iout(Max)(A): 0.2; Iq(Typ)(mA): 0.17; Rating: Catalog; SubFamily: Single Channel LDO; Vdo(Typ)(mV): 120; Vin(Max)(V): 5.5; Vin(Min)(V): 2.7; DatasheetVersion: SBVS054I; PackageVersion: 4205677/C; PackageReference: YZQ5; PackageDescription: 5-Pin Silicon Grid Array, Body 1.32 x 0.815 mm, Pitch 0.25 mm; Supplier 1: Digi-Key; Supplier Part Number 1: 296-18733-2-ND; Supplier 2: Digi-Key; Supplier Part Number 2: 296-18733-1-ND; Supplier 3: Mouser; Supplier Part Number 3: 595-TPS730285YZQR; Eco-Plan: Green (RoHS & no Sb/Br); Vout Adj(Max)(V): 2.85; Vout Adj(Min)(V): 2.85; Mounting Technology: Surface Mount; ComponentLink1Description: Manufacturer URL; ComponentLink1URL: http://www.ti.com/; ComponentLink2Description: Datasheet; ComponentLink2URL: http://www.ti.com/general/docs/lit/getliterature.tsp?genericPartNumber=TPS730285&fileType=pdf; ComponentLink3Description: Package Specification; ComponentLink3URL: http://www.ti.com/litv/pdf/mxbg047b
footprint TI-YZQ5-1320x815DE (BAG, 5-Balls, Body 1.32x0.815mm, Pitch 0.25mm)
pins: A1 GND (power) "Ground", A3 EN (in) "Driving the enable pin (EN) high turns on the regulator.Driving this pin low puts the regulator into shutdown mode.EN can be connected to IN if not used.", B2 NR "Connecting an external capacitor to this pin bypasses noise generated by the internal bandgap.This improves power-supply rejection and reduces output noise.", C1 OUT (power) "Output of the regulator.", C3 IN (power) "Input to the device."

## TPS730285YZQT
designator U?
Single Output High PSRR LDO, 200 mA, Fixed 2.85 V Output, 2.7 to 5.5 V Input, 5-pin DSBGA (YZQ), -40 to 85 degC, Green (RoHS & no Sb/Br); Manufacturer: Texas Instruments; PartNumber: TPS730285YZQT; Accuracy(%): 2; Fixed Output Options(V): 2.85; Iout(Max)(A): 0.2; Iq(Typ)(mA): 0.17; Rating: Catalog; SubFamily: Single Channel LDO; Vdo(Typ)(mV): 120; Vin(Max)(V): 5.5; Vin(Min)(V): 2.7; DatasheetVersion: SBVS054I; PackageVersion: 4205677/C; PackageReference: YZQ5; PackageDescription: 5-Pin Silicon Grid Array, Body 1.32 x 0.815 mm, Pitch 0.25 mm; Supplier 1: Digi-Key; Supplier Part Number 1: TPS730285YZQT-ND; Supplier 2: Mouser; Supplier Part Number 2: 595-TPS730285YZQT; Eco-Plan: Green (RoHS & no Sb/Br); Vout Adj(Max)(V): 2.85; Vout Adj(Min)(V): 2.85; Mounting Technology: Surface Mount; ComponentLink1Description: Manufacturer URL; ComponentLink1URL: http://www.ti.com/; ComponentLink2Description: Datasheet; ComponentLink2URL: http://www.ti.com/general/docs/lit/getliterature.tsp?genericPartNumber=TPS730285&fileType=pdf; ComponentLink3Description: Package Specification; ComponentLink3URL: http://www.ti.com/litv/pdf/mxbg047b
footprint TI-YZQ5-1320x815DE (BAG, 5-Balls, Body 1.32x0.815mm, Pitch 0.25mm)
pins: A1 GND (power) "Ground", A3 EN (in) "Driving the enable pin (EN) high turns on the regulator.Driving this pin low puts the regulator into shutdown mode.EN can be connected to IN if not used.", B2 NR "Connecting an external capacitor to this pin bypasses noise generated by the internal bandgap.This improves power-supply rejection and reduces output noise.", C1 OUT (power) "Output of the regulator.", C3 IN (power) "Input to the device."

## TPS731125DBVR
designator U?
Single Output LDO, 150 mA, Fixed 1.25 V Output, 1.7 to 5.5 V Input, with Reverse Current Protection, 5-pin SOT-23 (DBV), -40 to 125 degC, Green (RoHS & no Sb/Br); Manufacturer: Texas Instruments; PartNumber: TPS731125DBVR; Accuracy(%): 1; Fixed Output Options(V): 1.25; Iout(Max)(A): 0.1; Iq(Typ)(mA): 0.4; SubFamily: Single Channel LDO; Vdo(Typ)(mV): 30; Vin(Max)(V): 5.5; Vin(Min)(V): 1.7; DatasheetVersion: SBVS034M; PackageVersion: 4073253-4/K; PackageReference: DBV5; PackageDescription: 5-Pin Plastic Small Outline, Body 1.60 Ã— 2.90 mm, Pitch 0.95 mm; Supplier 1: Digi-Key; Supplier Part Number 1: 296-21276-2-ND; Supplier 2: Digi-Key; Supplier Part Number 2: 296-21276-1-ND; Supplier 3: Digi-Key; Supplier Part Number 3: 296-21276-6-ND; Supplier 4: Mouser; Supplier Part Number 4: 595-TPS731125DBVR; Eco-Plan: Green (RoHS & no Sb/Br); Vout Adj(Max)(V): 1.25; Vout Adj(Min)(V): 1.25; Mounting Technology: Surface Mount; Code_JEDEC: MO-178; ComponentLink1Description: Manufacturer URL; ComponentLink1URL: http://www.ti.com/; ComponentLink2Description: Datasheet; ComponentLink2URL: http://www.ti.com/general/docs/lit/getliterature.tsp?genericPartNumber=TPS731125&fileType=pdf; ComponentLink3Description: Package Specification; ComponentLink3URL: http://www.ti.com/litv/pdf/mpds018i
footprint TI-DBV5_N (SOT23, 5-Leads, Body 2.9x1.6mm, Pitch 0.95mm, IPC Medium Density)
footprint TI-DBV5_L (SOT23, 5-Leads, Body 2.9x1.6mm, Pitch 0.95mm, IPC High Density)
footprint TI-DBV5_M (SOT23, 5-Leads, Body 2.9x1.6mm, Pitch 0.95mm, IPC Low Density)
pins: 1 IN (power) "Input supply.", 2 GND (power) "Ground.", 3 EN (in) "Driving the enable pin (EN) high turns on the regulator .Driving this pin low puts the regulator into shutdown mode.EN can be connected to IN if not used.", 4 NR "Fixed voltage versions only; connecting an external capacitor to this pin bypasses noise generated by the internal bandgap. This capacitor allows output noise to be reduced to very low levels.", 5 OUT (power) "Output for the regulator. A small capacitor (total typical capacitance >= 2.0uF ceramic) is needed from this pin to ground to assure stability."

## TPS731125DBVRG4
designator U?
Single Output LDO, 150 mA, Fixed 1.25 V Output, 1.7 to 5.5 V Input, with Reverse Current Protection, 5-pin SOT-23 (DBV), -40 to 125 degC, Green (RoHS & no Sb/Br); Manufacturer: Texas Instruments; PartNumber: TPS731125DBVRG4; Accuracy(%): 1; Fixed Output Options(V): 1.25; Iout(Max)(A): 0.1; Iq(Typ)(mA): 0.4; SubFamily: Single Channel LDO; Vdo(Typ)(mV): 30; Vin(Max)(V): 5.5; Vin(Min)(V): 1.7; DatasheetVersion: SBVS034M; PackageVersion: 4073253-4/K; PackageReference: DBV5; PackageDescription: 5-Pin Plastic Small Outline, Body 1.60 Ã— 2.90 mm, Pitch 0.95 mm; Supplier 1: Digi-Key; Supplier Part Number 1: TPS731125DBVRG4-ND; Supplier 2: Mouser; Supplier Part Number 2: 595-TPS731125DBVRG4; Eco-Plan: Green (RoHS & no Sb/Br); Vout Adj(Max)(V): 1.25; Vout Adj(Min)(V): 1.25; Mounting Technology: Surface Mount; Code_JEDEC: MO-178; ComponentLink1Description: Manufacturer URL; ComponentLink1URL: http://www.ti.com/; ComponentLink2Description: Datasheet; ComponentLink2URL: http://www.ti.com/general/docs/lit/getliterature.tsp?genericPartNumber=TPS731125&fileType=pdf; ComponentLink3Description: Package Specification; ComponentLink3URL: http://www.ti.com/litv/pdf/mpds018i
footprint TI-DBV5_N (SOT23, 5-Leads, Body 2.9x1.6mm, Pitch 0.95mm, IPC Medium Density)
footprint TI-DBV5_L (SOT23, 5-Leads, Body 2.9x1.6mm, Pitch 0.95mm, IPC High Density)
footprint TI-DBV5_M (SOT23, 5-Leads, Body 2.9x1.6mm, Pitch 0.95mm, IPC Low Density)
pins: 1 IN (power) "Input supply.", 2 GND (power) "Ground.", 3 EN (in) "Driving the enable pin (EN) high turns on the regulator .Driving this pin low puts the regulator into shutdown mode.EN can be connected to IN if not used.", 4 NR "Fixed voltage versions only; connecting an external capacitor to this pin bypasses noise generated by the internal bandgap. This capacitor allows output noise to be reduced to very low levels.", 5 OUT (power) "Output for the regulator. A small capacitor (total typical capacitance >= 2.0uF ceramic) is needed from this pin to ground to assure stability."

## TPS731125DBVT
designator U?
Single Output LDO, 150 mA, Fixed 1.25 V Output, 1.7 to 5.5 V Input, with Reverse Current Protection, 5-pin SOT-23 (DBV), -40 to 125 degC, Green (RoHS & no Sb/Br); Manufacturer: Texas Instruments; PartNumber: TPS731125DBVT; Accuracy(%): 1; Fixed Output Options(V): 1.25; Iout(Max)(A): 0.1; Iq(Typ)(mA): 0.4; SubFamily: Single Channel LDO; Vdo(Typ)(mV): 30; Vin(Max)(V): 5.5; Vin(Min)(V): 1.7; DatasheetVersion: SBVS034M; PackageVersion: 4073253-4/K; PackageReference: DBV5; PackageDescription: 5-Pin Plastic Small Outline, Body 1.60 Ã— 2.90 mm, Pitch 0.95 mm; Supplier 1: Digi-Key; Supplier Part Number 1: 296-32551-2-ND; Supplier 2: Digi-Key; Supplier Part Number 2: 296-32551-1-ND; Supplier 3: Digi-Key; Supplier Part Number 3: 296-32551-6-ND; Supplier 4: Mouser; Supplier Part Number 4: 595-TPS731125DBVT; Eco-Plan: Green (RoHS & no Sb/Br); Vout Adj(Max)(V): 1.25; Vout Adj(Min)(V): 1.25; Mounting Technology: Surface Mount; Code_JEDEC: MO-178; ComponentLink1Description: Manufacturer URL; ComponentLink1URL: http://www.ti.com/; ComponentLink2Description: Datasheet; ComponentLink2URL: http://www.ti.com/general/docs/lit/getliterature.tsp?genericPartNumber=TPS731125&fileType=pdf; ComponentLink3Description: Package Specification; ComponentLink3URL: http://www.ti.com/litv/pdf/mpds018i
footprint TI-DBV5_N (SOT23, 5-Leads, Body 2.9x1.6mm, Pitch 0.95mm, IPC Medium Density)
footprint TI-DBV5_L (SOT23, 5-Leads, Body 2.9x1.6mm, Pitch 0.95mm, IPC High Density)
footprint TI-DBV5_M (SOT23, 5-Leads, Body 2.9x1.6mm, Pitch 0.95mm, IPC Low Density)
pins: 1 IN (power) "Input supply.", 2 GND (power) "Ground.", 3 EN (in) "Driving the enable pin (EN) high turns on the regulator .Driving this pin low puts the regulator into shutdown mode.EN can be connected to IN if not used.", 4 NR "Fixed voltage versions only; connecting an external capacitor to this pin bypasses noise generated by the internal bandgap. This capacitor allows output noise to be reduced to very low levels.", 5 OUT (power) "Output for the regulator. A small capacitor (total typical capacitance >= 2.0uF ceramic) is needed from this pin to ground to assure stability."